# Altium schematic symbol library ST-LINK.SchLib: 1 symbol
Pins are listed as number, name and electrical type; pins without a type are passive.

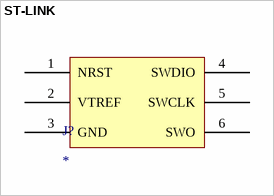
[diagram p0: symbol ST-LINK]

## ST-LINK
designator J?
footprint STLINK_Header
pins: 1 NRST, 2 VTREF, 3 GND, 4 SWDIO, 5 SWCLK, 6 SWO